# EAGLE library part UC3843 (library BaseApp)
Digikey No. :- __UC3843BD1GOS-ND__
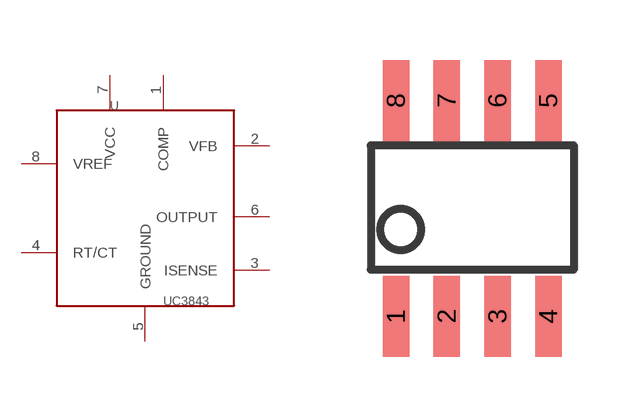
[diagram p113: symbol with the pads of SOIC-8; footprint SOIC-8]

Designator prefix -

## UC3843  [SOIC-8]
1  COMP
2  VFB
3  ISENSE
4  RT/CT
5  GROUND
6  OUTPUT
7  VCC
8  VREF

## Footprint SOIC-8 (pad centres in mm)
smd 0.66 x 2.032: 1 -1.905,-2.7; 2 -0.635,-2.7; 3 0.635,-2.7; 4 1.905,-2.7; 5 1.905,2.7; 6 0.635,2.7; 7 -0.635,2.7; 8 -1.905,2.7